# Altium footprint library UVICHyrbidLibrary (1).PcbLib: 116 footprints (part 5 of 8)
Each footprint in its own frame and in the unit in brackets; x right, y up, seen from the top. Pads: shape width x height; smd on the part's side, far side on the other; paste and mask are expansions set on the pad; w line width, h text height; cw(c..) or ccw(c..) is an arc to the next point about the centre after c.
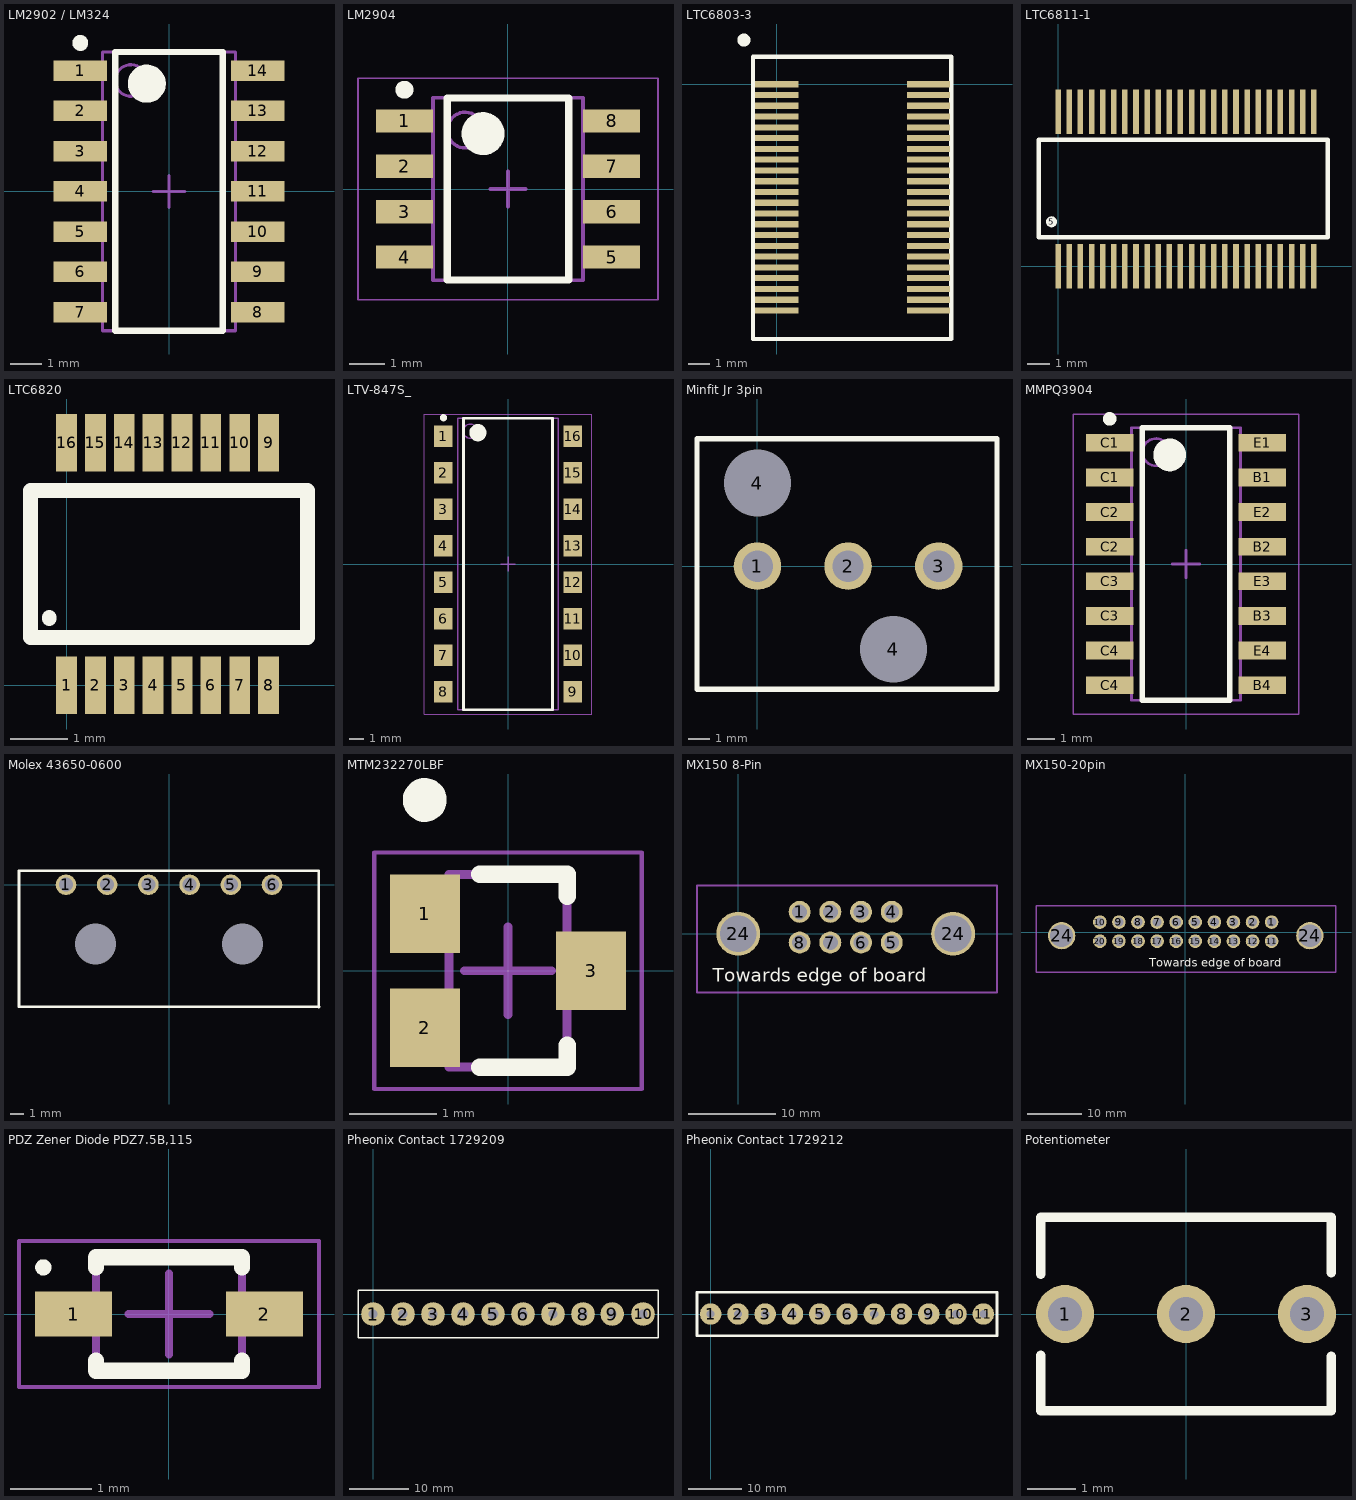
[diagram p4: the footprints below, top view; thin cyan lines are the x and y axes]

## LM2902 / LM324 [mm] "Fairchild Quad Operational Amplifier"
height 1.65
pads (14):
  rect 1.7x0.65 smd: 1(-2.8,3.81) 2(-2.8,2.54) 3(-2.8,1.27) 4(-2.8,0) 5(-2.8,-1.27) 6(-2.8,-2.54) 7(-2.8,-3.81) 8(2.8,-3.81) 9(2.8,-2.54) 10(2.8,-1.27) 11(2.8,0) 12(2.8,1.27) 13(2.8,2.54) 14(2.8,3.81)
Top Overlay:
  circle w0.6: c-0.7,3.4 r0.3
  circle w0.25: c-2.8,4.685 r0.125
  lines w0.2: -1.7,-4.4 1.7,-4.4 1.7,4.4 -1.7,4.4 -1.7,-4.4
Mechanical 13:
  circle w0.1: c-1.2,3.5 r0.5
  lines w0.1: -2.1,-4.4 2.1,-4.4 2.1,4.4 -2.1,4.4 -2.1,-4.4
Mechanical 15:
  lines w0.1: -0.5,0 0.5,0 ; 0,-0.5 0,0.5
3D body: height 1.65, standoff 0.05, extent -2.1,-4.4 2.1,4.4

## LM2904 [mm] "Fairchild Dual Operational Amplifier"
height 2
pads (8):
  rect 1.6x0.65 smd: 1(-2.9,1.905) 2(-2.9,0.635) 3(-2.9,-0.635) 4(-2.9,-1.905) 5(2.9,-1.905) 6(2.9,-0.635) 7(2.9,0.635) 8(2.9,1.905)
Top Overlay:
  circle w0.25: c-2.9,2.78 r0.125
  circle w0.6: c-0.7,1.55 r0.3
  lines w0.2: -1.7,-2.55 -1.7,2.55 1.7,2.55 1.7,-2.55 -1.7,-2.55
Mechanical 13:
  circle w0.1: c-1.2,1.65 r0.5
  lines w0.1: -2.1,-2.55 -2.1,2.55 2.1,2.55 2.1,-2.55 -2.1,-2.55
Mechanical 15:
  lines w0.05: -4.2,-3.1 -4.2,3.1 4.2,3.1 4.2,-3.1 -4.2,-3.1
  lines w0.1: -0.5,0 0.5,0 ; 0,-0.5 0,0.5
3D body: height 2, standoff 0.1, extent -2.1,-2.55 2.1,2.55

## LTC6803-3 [mm] "SSOP-44"
pads (44):
  rect 2x0.285 smd: 1(0,0) 2(0,-0.5) 3(0,-1) 4(0,-1.5) 5(0,-2) 6(0,-2.5) 7(0,-3) 8(0,-3.5) 9(0,-4) 10(0,-4.5) 11(0,-5) 12(0,-5.5) 13(0,-6) 14(0,-6.5) 15(0,-7) 16(0,-7.5) 17(0,-8) 18(0,-8.5) 19(0,-9) 20(0,-9.5) 21(0,-10) 22(0,-10.5) 23(7.05,-10.5) 24(7.05,-10) 25(7.05,-9.5) 26(7.05,-9) 27(7.05,-8.5) 28(7.05,-8) 29(7.05,-7.5) 30(7.05,-7) 31(7.05,-6.5) 32(7.05,-6) 33(7.05,-5.5) 34(7.05,-5) 35(7.05,-4.5) 36(7.05,-4) 37(7.05,-3.5) 38(7.05,-3) 39(7.05,-2.5) 40(7.05,-2) 41(7.05,-1.5) 42(7.05,-1) 43(7.05,-0.5) 44(7.05,0)
Top Overlay:
  circle w0.5: c-1.525,2.05 r0.05
  lines w0.203: -1.1,-11.825 8.1,-11.825 8.1,1.275 -1.1,1.275 -1.1,-11.825

## LTC6811-1 [mm]
pads (49):
  rect 0.25x2 smd mask+0.05: 1(0,0) 2(0.5,0) 3(1,0) 4(1.5,0) 5(2,0) 6(2.5,0) 7(3,0) 8(3.5,0) 9(4,0) 10(4.5,0) 11(5,0) 12(5.5,0) 13(6,0) 14(6.5,0) 15(7,0) 16(7.5,0) 17(8,0) 18(8.5,0) 19(9,0) 20(9.5,0) 21(10,0) 22(10.5,0) 23(11,0) 24(11.5,0) 25(11.5,6.95) 26(11,6.95) 27(10.5,6.95) 28(10,6.95) 29(9.5,6.95) 30(9,6.95) 31(8.5,6.95) 32(8,6.95) 33(7.5,6.95) 34(7,6.95) 35(6.5,6.95) 36(6,6.95) 37(5.5,6.95) 38(5,6.95) 39(4.5,6.95) 40(4,6.95) 41(3.5,6.95) 42(3,6.95) 43(2.5,6.95) 44(2,6.95) 45(1.5,6.95) 46(1,6.95) 47(0.5,6.95) 48(0,6.95)
  round 0.5 on Top Overlay: 5(-0.3,2)
Top Overlay:
  lines w0.2: -0.875,1.3 12.125,1.3 12.125,5.7 -0.875,5.7 -0.875,1.3

## LTC6820 [mm]
pads (16):
  rect 0.36x1 smd: 1(0,0) 2(0.5,0) 3(1,0) 4(1.5,0) 5(2,0) 6(2.5,0) 7(3,0) 8(3.5,0) 9(3.5,4.2) 10(3,4.2) 11(2.5,4.2) 12(2,4.2) 13(1.5,4.2) 14(1,4.2) 15(0.5,4.2) 16(0,4.2)
Top Overlay:
  lines w0.254: -0.3,1.15 -0.3,1.175 ; -0.625,0.825 4.175,0.825 4.175,3.375 -0.625,3.375 -0.625,0.825

## LTV-847S_ [mm] "4CH OPTO L"
height 4.6
pads (16):
  rect 1.3x1.5 smd: 1(-4.5,8.89) 2(-4.5,6.35) 3(-4.5,3.81) 4(-4.5,1.27) 5(-4.5,-1.27) 6(-4.5,-3.81) 7(-4.5,-6.35) 8(-4.5,-8.89) 9(4.5,-8.89) 10(4.5,-6.35) 11(4.5,-3.81) 12(4.5,-1.27) 13(4.5,1.27) 14(4.5,3.81) 15(4.5,6.35) 16(4.5,8.89)
Top Overlay:
  circle w0.6: c-2.1,9.15 r0.3
  circle w0.25: c-4.5,10.19 r0.125
  lines w0.2: -3.1,-10.15 3.1,-10.15 3.1,10.15 -3.1,10.15 -3.1,-10.15
Mechanical 13:
  circle w0.1: c-2.6,9.25 r0.5
  lines w0.1: -3.5,-10.15 3.5,-10.15 3.5,10.15 -3.5,10.15 -3.5,-10.15
Mechanical 15:
  lines w0.05: -5.85,-10.45 5.85,-10.45 5.85,10.45 -5.85,10.45 -5.85,-10.45
  lines w0.1: -0.5,0 0.5,0 ; 0,-0.5 0,0.5
3D body: height 4.6, standoff 0.1, extent -3.5,-10.15 3.5,10.15

## Minfit Jr 3pin [mm]
pads (5):
  round 2.2 hole 1.45: 1(0,0) 2(4.2,0) 3(8.4,0)
  round 2 hole 3.1: 4(0,3.85) 4(6.3,-3.85)
Top Overlay:
  lines w0.254: -2.8,-5.7 -2.8,-0.525 -2.8,5.9 11.1,5.9 11.1,-5.7 -2.8,-5.7

## MMPQ3904 [mm] "NPN General Purpose Quad Channel 3904"
height 1.75
pads (16):
  rect 1.75x0.65 smd: B1(2.8,3.175) B2(2.8,0.635) B3(2.8,-1.905) B4(2.8,-4.445) C1(-2.8,3.175) C1(-2.8,4.445) C2(-2.8,0.635) C2(-2.8,1.905) C3(-2.8,-1.905) C3(-2.8,-0.635) C4(-2.8,-4.445) C4(-2.8,-3.175) E1(2.8,4.445) E2(2.8,1.905) E3(2.8,-0.635) E4(2.8,-3.175)
Top Overlay:
  circle w0.6: c-0.6,4 r0.3
  circle w0.25: c-2.8,5.32 r0.125
  lines w0.2: -1.6,-5 1.6,-5 1.6,5 -1.6,5 -1.6,-5
Mechanical 13:
  circle w0.1: c-1.1,4.1 r0.5
  lines w0.1: -2,-5 2,-5 2,5 -2,5 -2,-5
Mechanical 15:
  lines w0.05: -4.125,-5.5 4.125,-5.5 4.125,5.5 -4.125,5.5 -4.125,-5.5
  lines w0.1: -0.5,0 0.5,0 ; 0,-0.5 0,0.5
3D body: height 1.75, standoff 0.1, extent -2,-5 2,5

## Molex 43650-0600 [mm] "6 Pin Connector"
pads (8):
  round 0 hole 3 unplated: 0(-5.35,-4.32) 0(5.35,-4.32)
  round 1.5 hole 1.02: 1(-7.5,0) 2(-4.5,0) 3(-1.5,0) 4(1.5,0) 5(4.5,0) 6(7.5,0)
Top Overlay:
  lines w0.2: 10.91,-8.92 10.91,0.98 10.874,1.016 -10.922,1.016 -10.922,-8.89 10.922,-8.89

## MTM232270LBF [mm] "MOSFET N CH 20V 2A SMINI3-G1-B"
height 1.1
pads (3):
  rect 0.8x0.9 smd: 1(-0.95,0.65) 2(-0.95,-0.65) 3(0.95,0)
Top Overlay:
  circle w0.25: c-0.95,1.95 r0.125
  lines w0.2: -0.325,-1.1 0.675,-1.1 0.675,-0.85 ; -0.325,1.1 0.675,1.1 0.675,0.85
Mechanical 13:
  lines w0.1: -0.675,-1.1 0.675,-1.1 0.675,1.1 -0.675,1.1 -0.675,-1.1
Mechanical 15:
  lines w0.05: -1.525,-1.35 1.525,-1.35 1.525,1.35 -1.525,1.35 -1.525,-1.35
  lines w0.1: -0.5,0 0.5,0 ; 0,-0.5 0,0.5
3D body: height 1.1, standoff 0.05, extent -0.675,-1.1 0.675,1.1

## MX150 8-Pin [mm]
pads (10):
  round 2.5 hole 1.7: 1(7,2.5) 2(10.5,2.5) 3(14,2.5) 4(17.5,2.5) 5(17.5,-1) 6(14,-1) 7(10.5,-1) 8(7,-1)
  round 5 hole 4.2 mask+0.102: 24(0,0) 24(24.5,0)
Top Overlay:
  text "Towards edge of board" at -2.9,-5.5 h1.52
Mechanical 1:
  lines w0.254: -4.7,-6.7 29.5,-6.7 29.5,5.5 -4.7,5.5 -4.7,-6.7

## MX150-20pin [mm] "0348302002"
height 25.29
pads (22):
  round 2.5 hole 1.7: 1(15.86,1.84) 2(12.36,1.84) 3(8.86,1.84) 4(5.36,1.84) 5(1.86,1.84) 6(-1.64,1.84) 7(-5.14,1.84) 8(-8.64,1.84) 9(-12.14,1.84) 10(-15.64,1.84) 11(15.86,-1.66) 12(12.36,-1.66) 13(8.86,-1.66) 14(5.36,-1.66) 15(1.86,-1.66) 16(-1.64,-1.66) 17(-5.14,-1.66) 18(-8.64,-1.66) 19(-12.14,-1.66) 20(-15.64,-1.66)
  round 5 hole 4.2 mask+0.102: 24(-22.64,-0.66) 24(22.86,-0.66)
Top Overlay:
  text "Towards edge of board" at -6.54,-6.36 h1.52
Mechanical 1:
  lines w0.254: -27.34,-7.36 -27.34,4.84 27.66,4.84 27.66,-7.36 -27.34,-7.36

## PDZ Zener Diode PDZ7.5B,115 [mm] "SOD323"
height 1.1
pads (2):
  rect 0.95x0.55 smd: 1(-1.175,0) 2(1.175,0)
Top Overlay:
  circle w0.1: c-1.55,0.575 r0.05
  lines w0.2: -0.9,-0.575 -0.9,-0.7 0.9,-0.7 0.9,-0.575 ; -0.9,0.575 -0.9,0.7 0.9,0.7 0.9,0.575
Mechanical 13:
  lines w0.1: -0.9,-0.675 0.9,-0.675 0.9,0.675 -0.9,0.675 -0.9,-0.675
Mechanical 15:
  lines w0.05: -1.85,-0.9 1.85,-0.9 1.85,0.9 -1.85,0.9 -1.85,-0.9
  lines w0.1: -0.5,0 0.5,0 ; 0,-0.5 0,0.5
3D body: height 1.1, standoff 0, extent -0.9,-0.675 0.9,0.675

## Pheonix Contact 1729209 [mm] "10 Position, Rising Cage, Terminal Block (Pheonix Contact)"
pads (10):
  round 4 hole 1.524: 1(0,0) 2(5.08,0) 3(10.16,0) 6(25.4,0) 7(30.48,0) 8(35.56,0) 9(40.5,0) 10(45.72,0)
  round 4 hole 1.9: 4(15.24,0) 5(20.32,0)
Top Overlay:
  lines w0.25: -2.54,-4.05 -2.54,4.05
  lines w0.254: -2.54,-4.05 48.26,-4.05 48.26,4.05 -2.54,4.05

## Pheonix Contact 1729212 [mm] "11 Position, Rising Cage, Terminal Block (Pheonix Contact)"
pads (11):
  round 4 hole 1.524: 1(0,0) 2(5.08,0) 3(10.16,0) 4(15.24,0) 5(20.32,0) 6(25.4,0) 7(30.48,0) 8(35.56,0) 9(40.64,0) 10(45.72,0) 11(50.8,0)
Top Overlay:
  lines w0.5: -2.54,-4.05 53.34,-4.05 53.34,4.05 -2.54,4.05 -2.54,-4.05

## Potentiometer [mm] "Trimmer Pot"
pads (3):
  round 1.2 hole 0.7: 1(-2.5,0) 2(0,0) 3(2.5,0)
Top Overlay:
  lines w0.2: -3,-0.85 -3,-2 3,-2 3,-0.875 ; -3,0.825 -3,2 3,2 3,0.85